# Altium integrated library MSGEQ7.IntLib: 1 symbol
Pins are listed as number, name and electrical type; pins without a type are passive.

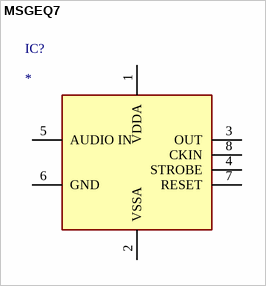
[diagram p0: symbol MSGEQ7]

## MSGEQ7
designator IC?
Seven band graphic equalizer IC; Manufacturer_Part_Number: MSGEQ7; Datasheet Link: http://images.100y.com.tw/pdf_file/34-MSGEQ7.pdf; Height: 1.75mm; Arrow Part Number: MSGEQ7
footprint SOIC127P600X175-8N
pins: 1 VDDA, 2 VSSA, 3 OUT, 4 STROBE, 5 AUDIO IN, 6 GND, 7 RESET, 8 CKIN